# Altium schematic symbol library BQ.SchLib: 10 symbols
Pins are listed as number, name and electrical type; pins without a type are passive.

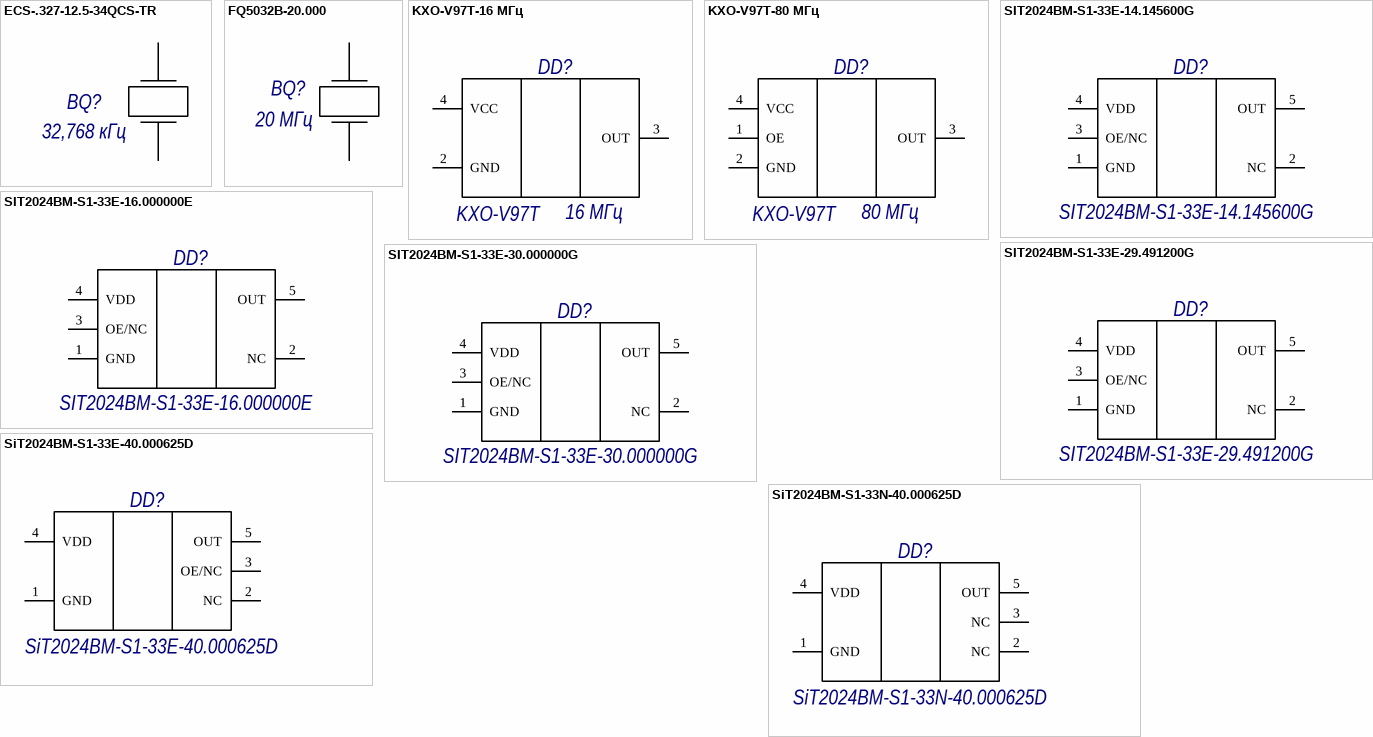
[diagram p0: symbols ECS-.327-12.5-34QCS-TR to SiT2024BM-S1-33N-40.000625D]

## ECS-.327-12.5-34QCS-TR
designator BQ?, comment value 32,768 кГц  (hidden comment: Кварцевый генератор ECS-.327-12.5-34QCS-TR фирма "ECS")
32.768кГц 12.5pF 10ppm -40C +125C AEC-Q200; GOST: Кварцевый генератор ECS-.327-12.5-34QCS-TR фирма "ECS"; PartNumber: ECS-.327-12.5-34QCS-TR
footprint ECX-34Q (SMD Tuning Fork Crystal with a  3.2x 1.5mm footprint H=0.9mm)
pins: 1, 2

## FQ5032B-20.000
designator BQ?, comment value 20 МГц  (hidden comment: Кварцевый генератор FQ5032B-20.000 фирма "FOX")
FQ5032B 20МГц; GOST: Кварцевый генератор FQ5032B-20.000 фирма "FOX"; PartNumber: FQ5032B-20.000
footprint FQ5032B (Clock Oscillator    4pin version 5x3.2mm H=1,2mm)
pins: 1, 3

## KXO-V97T-16 МГц
designator DD?, comment value 16 МГц  PartNumber: KXO-V97T  (hidden comment: Кварцевый генератор KXO-V97T-16 МГц фирма "Geyer")
KXO-V97T-16МГц; GOST: Кварцевый генератор KXO-V97T-16 МГц фирма "Geyer"
footprint KXO-V97T (Clock Oscillator    SMD-version 7x5.08mm)
pins: 2 GND, 3 OUT, 4 VCC

## KXO-V97T-80 МГц
designator DD?, comment value 80 МГц  PartNumber: KXO-V97T  (hidden comment: Кварцевый генератор KXO-V97T-80 МГц фирма "Geyer")
KXO-V97T-80МГц; GOST: Кварцевый генератор KXO-V97T-80 МГц фирма "Geyer"
footprint KXO-V97T (Clock Oscillator    SMD-version 7x5.08mm)
pins: 1 OE, 2 GND, 3 OUT, 4 VCC

## SIT2024BM-S1-33E-14.145600G
designator DD?, comment PartNumber: SIT2024BM-S1-33E-14.145600G  (hidden comment: Кварцевый генератор SIT2024BM-S1-33E-14.145600G фирма "SiTime")
14MHz XO (Standard) LVCMOS, LVTTL Oscillator 3.3V Enable/Disable ±20ppm SOT23-5; Value: 14 МГц; GOST: Кварцевый генератор SIT2024BM-S1-33E-14.145600G фирма "SiTime"; Temperature Range: -40 +125 °C; RoHS: RoHS and REACH compliant, Pb-free, Halogen-free and Antimony-free
footprint SOT-23-5
pins: 1 GND, 2 NC, 3 OE/NC, 4 VDD, 5 OUT

## SIT2024BM-S1-33E-16.000000E
designator DD?, comment PartNumber: SIT2024BM-S1-33E-16.000000E  (hidden comment: Кварцевый генератор SIT2024BM-S1-33E-16.000000E фирма "SiTime")
16MHz XO (Standard) LVCMOS, LVTTL Oscillator 3.3V Enable/Disable SOT23-5; Value: 16 МГц; GOST: Кварцевый генератор SIT2024BM-S1-33E-16.000000E фирма "SiTime"
footprint SOT-23-5
pins: 1 GND, 2 NC, 3 OE/NC, 4 VDD, 5 OUT

## SIT2024BM-S1-33E-29.491200G
designator DD?, comment PartNumber: SIT2024BM-S1-33E-29.491200G  (hidden comment: Кварцевый генератор SIT2024BM-S1-33E-29.491200G фирма "SiTime")
29MHz XO (Standard) LVCMOS, LVTTL Oscillator 3.3V Enable/Disable SOT23-5; Value: 29 МГц; GOST: Кварцевый генератор SIT2024BM-S1-33E-29.491200G фирма "SiTime"
footprint SOT-23-5
pins: 1 GND, 2 NC, 3 OE/NC, 4 VDD, 5 OUT

## SIT2024BM-S1-33E-30.000000G
designator DD?, comment PartNumber: SIT2024BM-S1-33E-30.000000G  (hidden comment: Кварцевый генератор SIT2024BM-S1-33E-30.000000G фирма "SiTime")
30MHz XO (Standard) LVCMOS, LVTTL Oscillator 3.3V Enable/Disable SOT23-5; Value: 30 МГц; GOST: Кварцевый генератор SIT2024BM-S1-33E-30.000000G фирма "SiTime"
footprint SOT-23-5
pins: 1 GND, 2 NC, 3 OE/NC, 4 VDD, 5 OUT

## SiT2024BM-S1-33E-40.000625D
designator DD?, comment PartNumber: SiT2024BM-S1-33E-40.000625D  (hidden comment: Кварцевый генератор SiT2024BM-S1-33E-40.000625D фирма "SiTime")
40MHz XO (Standard) LVCMOS, LVTTL Oscillator 3.3V, -55°C to 125°C,  ±20 ppm, Enable/Disable SOT-23-5; Value: 40 МГц; GOST: Кварцевый генератор SiT2024BM-S1-33E-40.000625D фирма "SiTime"; RoHS: RoHS and REACH compliant, Pb-free, Halogen-  fr ee andAntimony-free
footprint SOT-23-5
pins: 1 GND, 2 NC, 3 OE/NC, 4 VDD, 5 OUT

## SiT2024BM-S1-33N-40.000625D
designator DD?, comment PartNumber: SiT2024BM-S1-33N-40.000625D  (hidden comment: Кварцевый генератор SiT2024BM-S1-33N-40.000625D фирма "SiTime")
40MHz XO (Standard) LVCMOS, LVTTL Oscillator 3.3V, -55°C to 125°C,  ±20 ppm, SOT-23-5; Value: 40 МГц; GOST: Кварцевый генератор SiT2024BM-S1-33N-40.000625D фирма "SiTime"; RoHS: RoHS and REACH compliant, Pb-free, Halogen-free and Antimony-free
footprint SOT-23-5
pins: 1 GND, 2 NC, 3 NC, 4 VDD, 5 OUT